# Altium schematic symbol library Metal_Opera_Relay.SchLib: 1 symbol
Pins are listed as number, name and electrical type; pins without a type are passive.

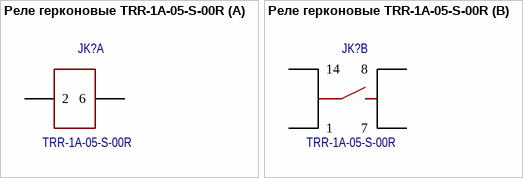
[diagram p0: symbol Реле герконовые TRR-1A-05-S-00R]

## Реле герконовые TRR-1A-05-S-00R
designator JK?, comment TRR-1A-05-S-00R
Реле герконовые TRR-1A-05-S-00R; P/N: Реле герконовые TRR-1A-05-S-00R, Tai Shing; ComponentLink1Description: Chipdip; ComponentLink1URL: https://www.chipdip.ru/product/trr-1a-05-s-00r-tai-shing-tti-8001786496
footprint TTR
part A pins: 2, 6
part B pins: 1, 7, 8, 14